# EAGLE library part S2X2 (library divers)
Switch 2*2
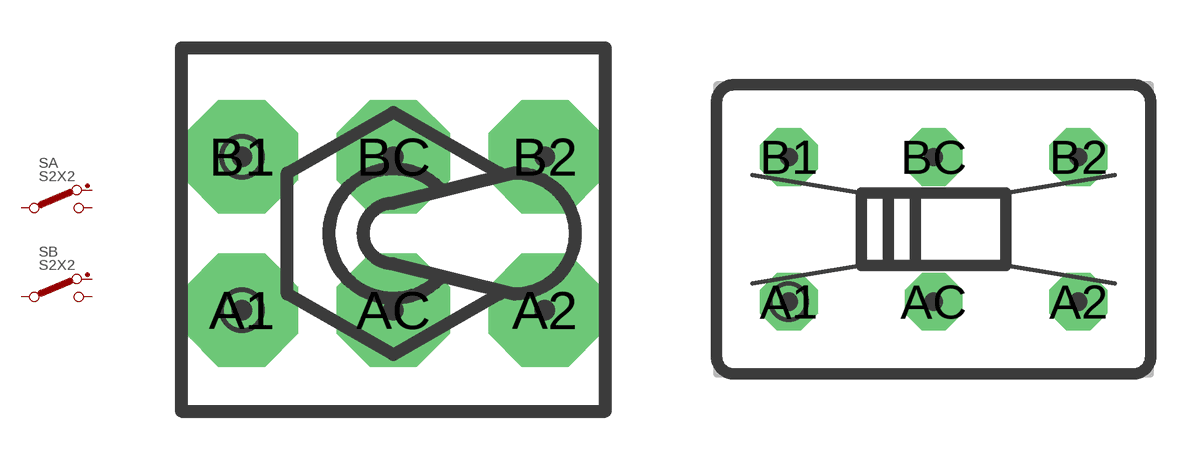
[diagram p21: symbol with the pads of ST2X2A; footprints ST2X2A, SS2X2A]

Designator prefix S; gates A=SR1X2 B=SR1X2

## S2X2T  [ST2X2A]
A1  A:1
A2  A:2
AC  A:C
B1  B:1
B2  B:2
BC  B:C

## S2X2A  [SS2X2A]
Pads as for ST2X2A

## S2X2B  [SS2X2B]
Pads as for ST2X2A

## S2X2  [SS2X2B]
Pads as for ST2X2A

## S2X2C  [SS2X2C]
Pads as for ST2X2A

## S2X2BL  [SS2X2BL]
Pads as for ST2X2A

## Footprint ST2X2A (pad centres in mm)
Toggle switch 2*2 for board mounting
drill 1.499 pad 3.556 octagon: A1 -4.763,-2.413; A2 4.763,-2.413; AC 0,-2.413; B1 -4.763,2.413; B2 4.763,2.413; BC 0,2.413

## Footprint SS2X2A (pad centres in mm)
Sliding switch 2*2 0.2" grid (15*10mm)
drill 0.813 pad 2.032 octagon: A1 -5.08,-2.54; A2 5.08,-2.54; AC 0,-2.54; B1 -5.08,2.54; B2 5.08,2.54; BC 0,2.54

## Footprint SS2X2B (pad centres in mm)
Sliding switch 2*2 0.1" grid (10*7.5mm) - Reichelt T681
drill 0.813 pad 2.032 octagon: A1 -2.54,-2.54; A2 2.54,-2.54; AC 0,-2.54; B1 -2.54,2.54; B2 2.54,2.54; BC 0,2.54

## Footprint SS2X2C (pad centres in mm)
Sliding switch 2*2 0.2" grid (12*11.5mm)
drill 0.991 pad 2.032 octagon: A1 -5.08,-2.54; A2 5.08,-2.54; AC 0,-2.54; B1 -5.08,2.54; B2 5.08,2.54; BC 0,2.54

## Footprint SS2X2BL (pad centres in mm)
Sliding switch 2*2, long pads 0.1" grid (10*7.5mm) - Reichelt T681
drill 0.813 pad 1.397 long: A1 -2.54,-2.54; A2 2.54,-2.54; AC 0,-2.54; B1 -2.54,2.54; B2 2.54,2.54; BC 0,2.54